# Altium schematic symbol library RC0805FR-0766K5L.SchLib: 1 symbol
Pins are listed as number, name and electrical type; pins without a type are passive.

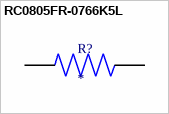
[diagram p0: symbol RC0805FR-0766K5L]

## RC0805FR-0766K5L
designator R?
66.5 kOhms Â±1% 0.125W, 1/8W Chip Resistor 0805 (2012 Metric) Moisture Resistant Thick Film; MF: Yageo; MP: RC0805FR-0766K5L; SnapEDA_Link: https://www.snapeda.com/parts/RC0805FR-0766K5L/Yageo/view-part/?ref=snap; Package: 2012 Yageo; Value: *; Check_prices: https://www.snapeda.com/parts/RC0805FR-0766K5L/Yageo/view-part/?ref=eda
footprint RESC2012X60N
pins: 1, 2